# Altium schematic symbol library LEDs.SchLib: 4 symbols
Pins are listed as number, name and electrical type; pins without a type are passive.

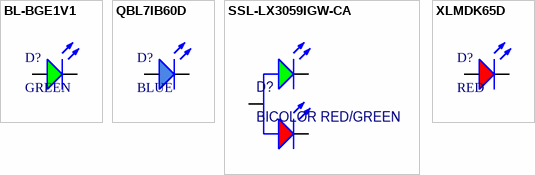
[diagram p0: symbols BL-BGE1V1 to XLMDK65D]

## BL-BGE1V1
designator D?, comment GREEN
LED GREEN DIFFUSED 3MM T/H; Manufacturer: American Bright; Manufacturer Part Number: BL-BGE1V1; Supplier: Digikey; Supplier Part Number: BL-BGE1V1-ND; RoHS: No; Category: LEDs; Stock: 19675; Pricing: 1=0.38, 10=0.209, 100=0.0968, 500=0.08938, 1000=0.07002, 2000=0.06853, 5000=0.05959, 10000=0.05363, 25000=0.04767 (USD); ComponentLink1URL: https://datasheet.ciiva.com/72146/bl-bge1v1-72146604.pdf?src-supplier=Digikey; ComponentLink1Description: https://datasheet.ciiva.com/72146/bl-bge1v1-72146604.pdf?src-supplier=Digikey
footprint LED_T1_3MM_GREEN
pins: 1 K, 2 A

## QBL7IB60D
designator D?, comment BLUE
LED BLUE DIFFUSED T-1 T/H; Manufacturer: QT-Brightek; Manufacturer Part Number: QBL7IB60D; Supplier: Digikey; Supplier Part Number: 1516-1351-ND; RoHS: No; Category: LEDs; Stock: 9071; Pricing: 1=0.6, 10=0.394, 100=0.2606, 1000=0.20119, 2000=0.1818, 5000=0.16968, 10000=0.16362, 25000=0.1612 (USD); ComponentLink1URL: http://www.qt-brightek.com/datasheet/QBL7XX60D.pdf?src-supplier=Digikey; ComponentLink1Description: http://www.qt-brightek.com/datasheet/QBL7XX60D.pdf?src-supplier=Digikey
footprint LED_T1_3MM_BLUE
pins: 1 K, 2 A

## SSL-LX3059IGW-CA
designator D?, comment BICOLOR RED/GREEN
LED GREEN/RED DIFF T-3MM TRI T/H; Manufacturer: Lumex; Manufacturer Part Number: SSL-LX3059IGW-CA; Color: Green, Red; Forward Current: 30mA; Forward Voltage: 2.2V; Lens Style: Colorless, Diffused, Dome; Luminous Intensity: 30mcd; Number of Circuits: 1; Number of LEDs: 2; Power Dissipation: 105mW; Reverse Voltage: 5V; Shape: Round; Viewing Angle: 60°; Wavelength: 635nm; Supplier: DigiKey; Supplier Part Number: 67-2307-ND; RoHS: Compliant; Category: LEDs; Stock: 91547; Pricing: 1=0.53, 10=0.365, 100=0.2624, 500=0.21602, 1000=0.20076, 2000=0.18779, 5000=0.17358, 10000=0.16471, 25000=0.15504 (USD); Case/Package: Radial; China RoHS: Compliant; Country of Origin: Mainland China; Export Control Classification Number (ECCN) Code: EAR99; Height: 5mm; Harmonized Tariff Schedule (HTS) Code: 8541.40.20.00; Illumination Color: Green, Red; Introduction Date: 2001-01-30; Lead Free: Lead Free; Lifecycle Status: Production; Max Operating Temperature: 85°C; Min Operating Temperature: -40°C; Mounting Technology: Through Hole; Pins: 3; Number of Terminals: 3; Packaging: Bulk; REACH SVHC: Yes; Schedule B: 8541402000, 8541402000|8541402000, 8541402000|8541402000|8541402000, 8541402000|8541402000|8541402000|8541402000; Terminal Pitch: 2.54mm; ComponentLink1URL: https://datasheet.octopart.com:443/SSL-LX3059IGW-CA-Lumex-datasheet-158669.pdf?src-supplier=IHS; ComponentLink1Description: https://datasheet.octopart.com:443/SSL-LX3059IGW-CA-Lumex-datasheet-158669.pdf?src-supplier=IHS; ComponentLink2URL: https://datasheet.octopart.com:443/SSL-LX3059IGW-CA-Lumex-datasheet-12552074.pdf?src-supplier=Future+Electronics; ComponentLink2Description: https://datasheet.octopart.com:443/SSL-LX3059IGW-CA-Lumex-datasheet-12552074.pdf?src-supplier=Future+Electronics
footprint LED_3MM_GREEN_RED
pins: 1 KG, 2 A, 3 KR

## XLMDK65D
designator D?, comment RED
LED RED DIFFUSED T-1 T/H; Manufacturer: SunLED; Manufacturer Part Number: XLMDK65D; Supplier: Digikey; Supplier Part Number: 1497-XLMDK65D-ND; RoHS: No; Category: LEDs; Stock: 9542; Pricing: 1=0.26, 10=0.206, 100=0.0924, 500=0.0835, 1000=0.06859, 2000=0.05964, 5000=0.05368, 10000=0.0525 (USD)
footprint LED_T1_3MM_RED
pins: 1 K, 2 A